# Altium footprint library ARDevelopmentPlat.PcbLib: 24 footprints (part 1 of 2)
Each footprint in its own frame and in the unit in brackets; x right, y up, seen from the top. Pads: shape width x height; smd on the part's side, far side on the other; paste and mask are expansions set on the pad; w line width, h text height; cw(c..) or ccw(c..) is an arc to the next point about the centre after c.
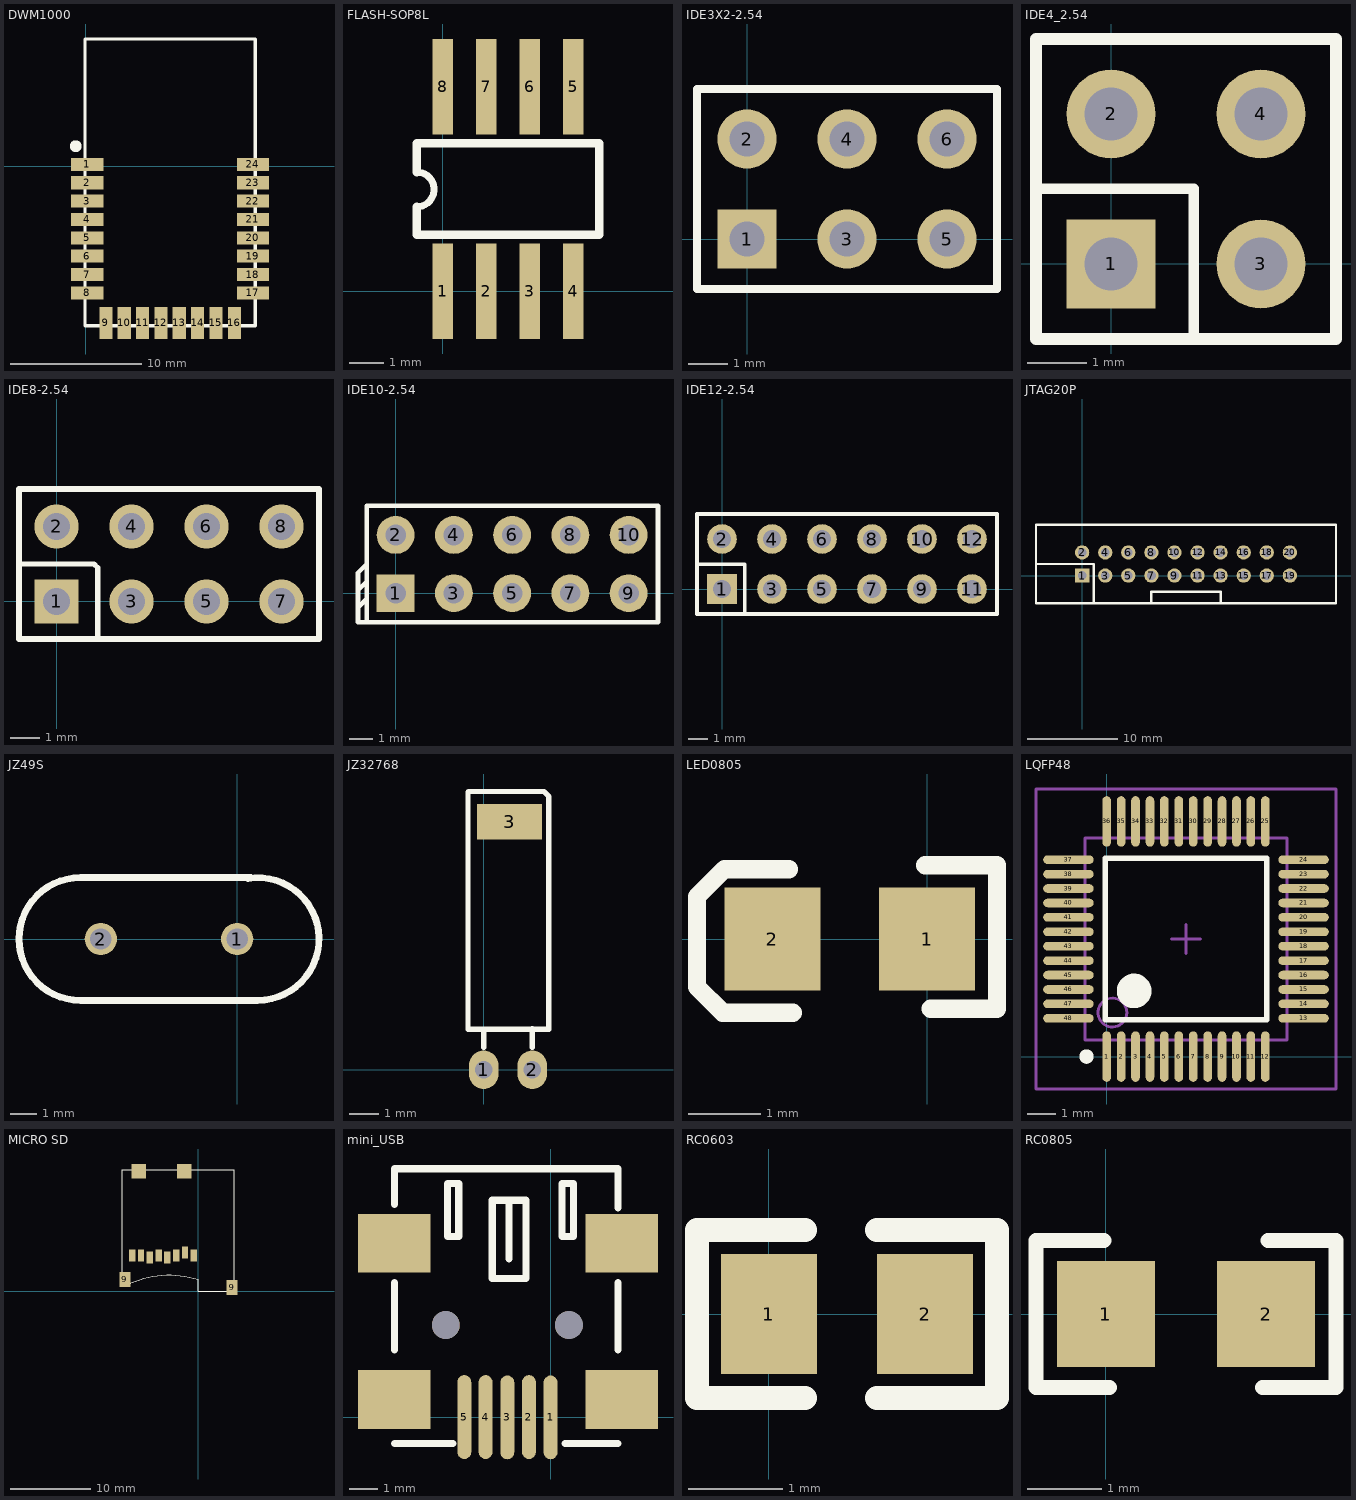
[diagram p0: the footprints below, top view; thin cyan lines are the x and y axes]

## DWM1000 [mm]
pads (24):
  rect 2.45x1 smd: 1(0.127,0.127) 2(0.127,-1.273) 3(0.127,-2.673) 4(0.127,-4.073) 5(0.127,-5.473) 6(0.127,-6.873) 7(0.127,-8.273) 8(0.127,-9.673) 17(12.771,-9.673) 18(12.771,-8.273) 19(12.771,-6.873) 20(12.771,-5.473) 21(12.771,-4.073) 22(12.771,-2.673) 23(12.771,-1.273) 24(12.771,0.127)
  rect 1x2.45 smd: 9(1.549,-11.971) 10(2.949,-11.971) 11(4.349,-11.971) 12(5.749,-11.971) 13(7.149,-11.971) 14(8.549,-11.971) 15(9.949,-11.971) 16(11.349,-11.971)
Top Overlay:
  circle w0.7: c-0.762,1.524 r0.1
  lines w0.254: -0.051,-12.174 -0.051,9.702 12.949,9.702 12.949,-12.193 ; -0.051,-12.173 12.949,-12.173

## FLASH-SOP8L [mil]
pads (8):
  rect 24x110 smd: 1(0,0) 2(50,0) 3(100,0) 4(150,0) 5(150,235) 6(100,235) 7(50,235) 8(0,235)
Top Overlay:
  lines w8: -30,97 ccw(c-30,117) -30,137
  lines w10: -30,97 -30,65 180,65 180,170 -30,170 -30,137

## IDE3X2-2.54 [mm]
pads (6):
  rect 1.5x1.5 hole 0.9: 1(0,0)
  round 1.5 hole 0.9: 2(0,2.54) 3(2.54,0) 4(2.54,2.54) 5(5.08,0) 6(5.08,2.54)
Top Overlay:
  lines w0.2: 1.482,-1.27 6.35,-1.27 ; 6.35,-1.27 -1.27,-1.27 -1.27,3.81 6.35,3.81 6.35,-1.27

## IDE4_2.54 [mm]
pads (4):
  rect 1.5x1.5 hole 0.9: 1(0,0)
  round 1.5 hole 0.9: 2(0,2.54) 3(2.54,0) 4(2.54,2.54)
Top Overlay:
  lines w0.178: -1.27,1.27 1.397,1.27 1.397,-1.27
  lines w0.2: -1.27,-1.27 -1.27,3.81 3.81,3.81 3.81,-1.27 -1.27,-1.27

## IDE8-2.54 [mm]
pads (8):
  rect 1.5x1.5 hole 0.9: 1(0,0)
  round 1.5 hole 0.9: 2(0,2.54) 3(2.54,0) 4(2.54,2.54) 5(5.08,0) 6(5.08,2.54) 7(7.62,0) 8(7.62,2.54)
Top Overlay:
  lines w0.178: -1.27,1.27 1.27,1.27 1.397,1.143 1.397,-1.27
  lines w0.2: -1.27,-1.27 -1.27,3.81 8.89,3.81 8.89,-1.27 -1.27,-1.27

## IDE10-2.54 [mil]
pads (10):
  rect 65x65 hole 35.43 mask+3: 1(0,0)
  round 65 hole 35.43 mask+3: 2(0,100) 3(100,0) 4(100,100) 5(200,0) 6(200,100) 7(300,0) 8(300,100) 9(400,0) 10(400,100)
Top Overlay:
  lines w8: -64.66,-24.83 -49.66,-9.83 ; -64.66,5.17 -49.66,20.17 ; -49.66,-49.83 -49.66,150.17 450.34,150.17 450.34,-49.83 -64.66,-49.83 -64.66,35.17 -49.66,50.17

## IDE12-2.54 [mm]
pads (12):
  rect 1.5x1.5 hole 0.9: 1(0,0)
  round 1.5 hole 0.9: 2(0,2.54) 3(2.54,0) 4(2.54,2.54) 5(5.08,0) 6(5.08,2.54) 7(7.62,0) 8(7.62,2.54) 9(10.16,0) 10(10.16,2.54) 11(12.7,0) 12(12.7,2.54)
Top Overlay:
  lines w0.178: -1.27,1.27 1.143,1.27 1.143,-1.27
  lines w0.2: -1.27,-1.27 -1.27,3.81 13.97,3.81 13.97,-1.27 -1.27,-1.27

## JTAG20P [mil]
pads (20):
  rect 62x62 hole 38: 1(0,0)
  round 62 hole 38: 2(0,100) 3(100,0) 4(100,100) 5(200,0) 6(200,100) 7(300,0) 8(300,100) 9(400,0) 10(400,100) 11(500,0) 12(500,100) 13(600,0) 14(600,100) 15(700,0) 16(700,100) 17(800,0) 18(800,100) 19(900,0) 20(900,100)
Top Overlay:
  lines w10: -200,50 50,50 50,-120 ; 300,-120 300,-70 600,-70 600,-120 ; -200,-120 -200,220 1100,220 1100,-120 -200,-120

## JZ49S [mm]
pads (2):
  round 1.2 hole 0.8: 1(0,0) 2(-5.08,0)
Top Overlay:
  lines w0.254: 0.404,2.258 cw(c0.762,0) 0.762,-2.286 -5.842,-2.286 cw(c-5.842,0) -5.842,2.286 0.508,2.286

## JZ32768 [mm]
pads (3):
  oval 1x1.3 hole 0.6: 1(0,0) 2(1.64,0)
  rect 2.2x1.2 smd: 3(0.875,8.382)
Top Overlay:
  lines w0.178: 0,0.762 0,1.37 ; 1.64,0.762 1.64,1.386 ; -0.53,1.37 -0.53,8.77 -0.53,9.376 -0.508,9.398 2.032,9.398 2.2,9.23 2.2,8.77 2.2,1.37 -0.53,1.37

## LED0805 [mil]
pads (2):
  rect 52x56 smd: 1(0,0) 2(-84,0)
Top Layer:
  lines w20: -86,2 -84,0
Top Overlay:
  lines w10: -75,38 -110,38 -125,23 -125,-26 -111,-40 -73,-40 ; -1,40 38,40 38,-38 2,-38

## LQFP48 [mm]
pads (48):
  oval 0.3x1.75 smd: 1(0,0) 2(0.5,0) 3(1,0) 4(1.5,0) 5(2,0) 6(2.5,0) 7(3,0) 8(3.5,0) 9(4,0) 10(4.5,0) 11(5,0) 12(5.5,0) 25(5.5,8.15) 26(5,8.15) 27(4.5,8.15) 28(4,8.15) 29(3.5,8.15) 30(3,8.15) 31(2.5,8.15) 32(2,8.15) 33(1.5,8.15) 34(1,8.15) 35(0.5,8.15) 36(0,8.15)
  oval 1.75x0.3 smd: 13(6.825,1.325) 14(6.825,1.825) 15(6.825,2.325) 16(6.825,2.825) 17(6.825,3.325) 18(6.825,3.825) 19(6.825,4.325) 20(6.825,4.825) 21(6.825,5.325) 22(6.825,5.825) 23(6.825,6.325) 24(6.825,6.825) 37(-1.325,6.825) 38(-1.325,6.325) 39(-1.325,5.825) 40(-1.325,5.325) 41(-1.325,4.825) 42(-1.325,4.325) 43(-1.325,3.825) 44(-1.325,3.325) 45(-1.325,2.825) 46(-1.325,2.325) 47(-1.325,1.825) 48(-1.325,1.325)
Top Overlay:
  circle w0.25: c-0.7,0 r0.125
  circle w0.6: c0.95,2.275 r0.3
  lines w0.2: -0.05,1.275 5.55,1.275 5.55,6.875 -0.05,6.875 -0.05,1.275
Mechanical 13:
  circle w0.1: c0.2,1.525 r0.5
  lines w0.1: -0.75,0.575 6.25,0.575 6.25,7.575 -0.75,7.575 -0.75,0.575
Mechanical 15:
  lines w0.1: 2.25,4.075 3.25,4.075 ; 2.75,3.575 2.75,4.575 ; -2.45,-1.125 7.95,-1.125 7.95,9.275 -2.45,9.275 -2.45,-1.125

## MICRO SD [mm]
pads (12):
  rect 0.8x1.5 smd: 1(-0.558,4.459) 2(-1.658,4.859) 3(-2.758,4.459) 4(-3.858,4.259) 5(-4.958,4.459) 6(-6.058,4.259) 7(-7.158,4.459) 8(-8.258,4.459)
  rect 1.4x1.9 smd: 9(-9.158,1.499) 9(4.212,0.499)
  rect 1.8x1.8 smd: ""(-7.448,15.009) ""(-1.748,15.009)
Top Overlay:
  lines w0.1: -8.408,1.009 cw(c-3.658,-9.771) -0.008,1.429 -0.008,0.009 4.502,0.009 4.502,15.209 -9.498,15.209 -9.498,1.009 -8.408,1.009

## mini_USB [mm]
pads (11):
  oval 0.5x3 smd: 1(0,0) 2(-0.775,0.009) 3(-1.549,0) 4(-2.324,0.009) 5(-3.086,0.009)
  rect 2.6x2.1 smd: ""(-5.588,0.635) ""(-5.588,6.223) ""(2.54,0.635) ""(2.54,6.223)
  round 1 hole 1: ""(-3.749,3.299) ""(0.651,3.299)
Top Overlay:
  lines w0.254: -5.588,2.413 -5.588,4.826 ; -5.586,-0.938 -3.486,-0.938 ; -5.586,7.62 -5.586,8.89 2.414,8.89 2.414,7.493 ; -1.486,5.662 -1.486,7.762 ; 0.514,-0.938 2.414,-0.938 ; 2.413,2.413 2.413,4.826 ; -3.686,6.462 -3.686,8.362 -3.286,8.362 -3.286,6.462 -3.686,6.462 ; -2.086,4.962 -0.886,4.962 -0.886,7.762 -2.086,7.762 -2.086,4.962 ; 0.414,6.462 0.414,8.362 0.814,8.362 0.814,6.462 0.414,6.462

## RC0603 [mil]
pads (2):
  rect 40x50 smd: 1(0,0) 2(65,0)
Top Overlay:
  lines w10: 15,-35 -30,-35 -30,35 15,35 ; 45,-35 95,-35 95,35 45,35

## RC0805 [mil]
pads (2):
  rect 52x56 smd: 1(0,0) 2(85,0)
Top Overlay:
  lines w8: -1,39 -37,39 -37,-39 2,-39 ; 83,-39 122,-39 122,39 86,39